# EAGLE library part M09_SMD (library smd_pin_headers)
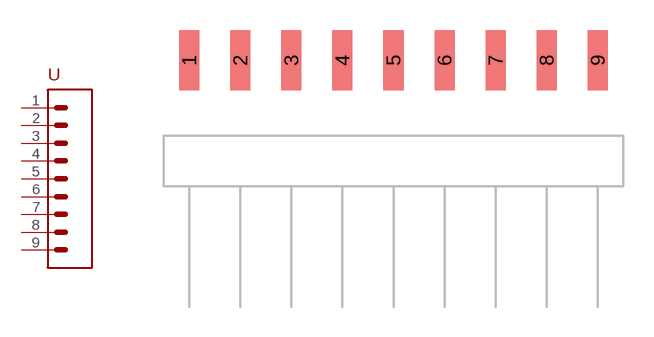
[diagram p0: symbol with the pads of 1X09-SMD; footprint 1X09-SMD]

Designator prefix -

## M09_SMD  [1X09-SMD]
1  P$1
2  P$2
3  P$3
4  P$4
5  P$5
6  P$6
7  P$7
8  P$8
9  P$9

## Footprint 1X09-SMD (pad centres in mm)
smd 1 x 3: 1 -10.16,5; 2 -7.62,5; 3 -5.08,5; 4 -2.54,5; 5 0,5; 6 2.54,5; 7 5.08,5; 8 7.62,5; 9 10.16,5